# Altium integrated library Infineon_Microcontroller.IntLib: 721 symbols (part 58 of 66)
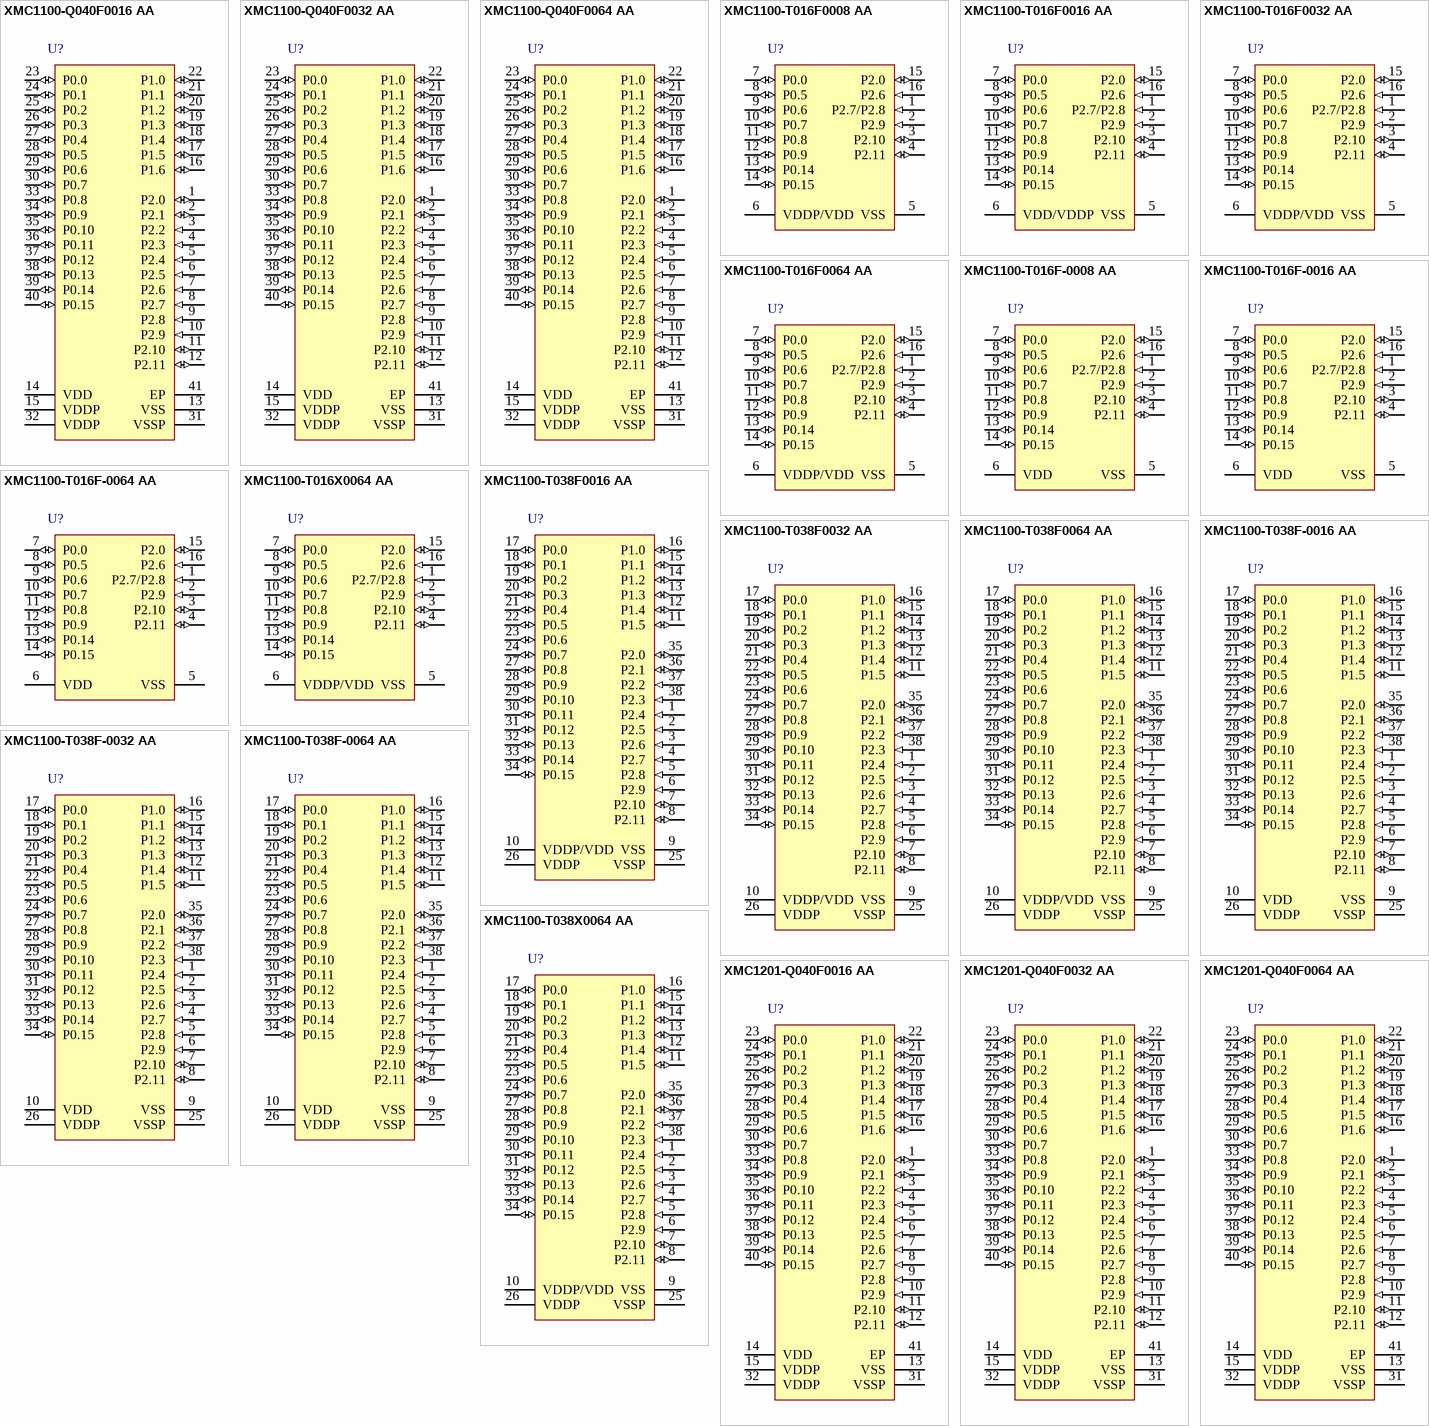
[diagram p175: symbols XMC1100-Q040F0016 AA to XMC1201-Q040F0064 AA]

## XMC1100-Q040F0064 AA
designator U?
32 MHz XMC1100 MCU with 64 KByte Program Memory, 16 KByte SRAM, 3.3 V, 5 V, -40 to 85 degC, PG-VQFN-40, Reel, Green; Manufacturer: Infineon; PartNumber: XMC1100-Q040F0064 AA; A / D input lines (incl. FADC): 12; Digital I/O Lines: 34; E2PROM Emulation (Data-Flash): TRUE; Instruction set architecture: ARM(R) Cortex(TM)-M0 (32-bit); Instruction width [bits]: 32/16; Max Clock Frequency: 32 MHz; Power Modes: clock gating possible; Serial I/O Interfaces: 2; Type of Memory: Flash; Type of Serial I/O Interfaces: UART, SPI, I2C, I2S; DatasheetVersion: Rev. 1.4; PackageVersion: Rev. 01; PackageReference: PG-VQFN-40-13; PackageDescription: 40-Pin Plastic (Green) Very Thin Profile Quad Flat Non Leaded Package, 5 x 5 mm Body, 0.4 mm Pitch; Green: TRUE; Group: XMC1100; Halogen-free: TRUE; I/O Operation Voltages: 3.3 V, 5 V; On-chip clock generation: TRUE; On-chip Voltage Regulator: TRUE; Oscillator Watchdog: TRUE; Packing: Reel; Program Memory: 64 KByte; Real Time Clock (RTC): TRUE; SRAM (incl. Cache): 16 KByte; Watchdog Timer: TRUE; Mounting Technology: Surface Mount; ComponentLink1Description: Manufacturer URL; ComponentLink1URL: http://www.infineon.com/; ComponentLink2Description: Datasheet; ComponentLink2URL: http://www.infineon.com/dgdl/xmc1100_ds_v1.3_2014_02.pdf?folderId=db3a30433580b3710135a47f3eb76c98&fileId=db3a30433d1d0bbe013d256b60160b7f&ack=t; ComponentLink3Description: Package Specification; ComponentLink3URL: http://www.infineon.com/cms/packages/SMD_-_Surface_Mounted_Devices/P-PG-VQFN/P-PG-VQFN-040-13.html?__locale=en
footprint INF-PG-VQFN-40-13_V (QFN, 40-Leads, Body 5x5mm, Pitch 0.4mm, Thermal Pad 3.6x3.6mm)
pins: 1 P2.0 (io), 2 P2.1 (io), 3 P2.2 (in), 4 P2.3 (in), 5 P2.4 (in), 6 P2.5 (in), 7 P2.6 (in), 8 P2.7 (in), 9 P2.8 (in), 10 P2.9 (in), 11 P2.10 (io), 12 P2.11 (io), 13 VSS (power) "Supply GND, ADC reference GND", 14 VDD (power) "Supply VDD, ADC reference voltage/ORC reference voltage. VDD has to be supplied with the same voltage as VDDP", 15 VDDP (power) "I/O port supply", 16 P1.6 (io), 17 P1.5 (io), 18 P1.4 (io), 19 P1.3 (io), 20 P1.2 (io), 21 P1.1 (io), 22 P1.0 (io), 23 P0.0 (io), 24 P0.1 (io), 25 P0.2 (io), 26 P0.3 (io), 27 P0.4 (io), 28 P0.5 (io), 29 P0.6 (io), 30 P0.7 (io), 31 VSSP (power) "I/O port ground", 32 VDDP (power) "I/O port supply", 33 P0.8 (io), 34 P0.9 (io), 35 P0.10 (io), 36 P0.11 (io), 37 P0.12 (io), 38 P0.13 (io), 39 P0.14 (io), 40 P0.15 (io), 41 EP (power) "Exposed Die Pad The exposed die pad is connected internally to VSSP.For proper operation, it is mandatory to connect the exposed pad to the board ground For thermal aspects, please refer to the Package and Reliability chapter."

## XMC1100-T016F0008 AA
designator U?
32 MHz XMC1100 MCU with 8 Kbyte Program Memory, 16 KByte SRAM, 3.3 V, 5 V, -40 to 85 degC, PG-TSSOP-16, Reel, Green; Manufacturer: Infineon; PartNumber: XMC1100-T016F0008 AA; A / D input lines (incl. FADC): 6; Digital I/O Lines: 14; E2PROM Emulation (Data-Flash): TRUE; Instruction set architecture: ARM(R) Cortex(TM)-M0 (32-bit); Instruction width [bits]: 32/16; Max Clock Frequency: 32 MHz; Power Modes: clock gating possible; Program Memory: 8 Kbyte; Serial I/O Interfaces: 2; Type of Memory: Flash; Type of Serial I/O Interfaces: UART, SPI, I2C, I2S; DatasheetVersion: Rev. 1.4; PackageVersion: Rev. 1.4, 05/2014; PackageReference: PG-TSSOP-16-8; PackageDescription: 16-Pin Plastic (Green) Thin Shrink Small Outline Package, 4.4 x 5 mm Body, 0.65 mm Pitch; Green: TRUE; Group: XMC1100; Halogen-free: TRUE; I/O Operation Voltages: 3.3 V, 5 V; On-chip clock generation: TRUE; On-chip Voltage Regulator: TRUE; Oscillator Watchdog: TRUE; Packing: Reel; Real Time Clock (RTC): TRUE; SRAM (incl. Cache): 16 KByte; Watchdog Timer: TRUE; Mounting Technology: Surface Mount; ComponentLink1Description: Manufacturer URL; ComponentLink1URL: http://www.infineon.com/; ComponentLink2Description: Datasheet; ComponentLink2URL: http://www.infineon.com/dgdl/xmc1100_ds_v1.4_2014_05.pdf?folderId=db3a30433580b3710135a47f3eb76c98&fileId=db3a30433d1d0bbe013d256b60160b7f&ack=t; ComponentLink3Description: Package Specification; ComponentLink3URL: http://www.infineon.com/dgdl/xmc1300_ds_v1.4_2014_05.pdf?folderId=db3a30433580b3710135a47f3eb76c98&fileId=db3a30433d1d0bbe013d256ee0aa0ccb&ack=t
footprint INF-PG-TSSOP-16-8_N (SOP, 16-Leads, Body 5x4.4mm, Pitch 0.65mm, IPC Medium Density)
footprint INF-PG-TSSOP-16-8_L (SOP, 16-Leads, Body 5x4.4mm, Pitch 0.65mm, IPC High Density)
footprint INF-PG-TSSOP-16-8_M (SOP, 16-Leads, Body 5x4.4mm, Pitch 0.65mm, IPC Low Density)
pins: 1 P2.7/P2.8 (in), 2 P2.9 (in), 3 P2.10 (io), 4 P2.11 (io), 5 VSS (power) "Supply GND, ADC reference GND", 6 VDDP/VDD (power), 7 P0.0 (io), 8 P0.5 (io), 9 P0.6 (io), 10 P0.7 (io), 11 P0.8 (io), 12 P0.9 (io), 13 P0.14 (io), 14 P0.15 (io), 15 P2.0 (io), 16 P2.6 (in)

## XMC1100-T016F0016 AA
designator U?
32 MHz XMC1100 MCU with 16 KByte Program Memory, 16 KByte SRAM, 3.3 V, 5 V, -40 to 85 degC, PG-TSSOP-16, Reel, Green; Manufacturer: Infineon; PartNumber: XMC1100-T016F0016 AA; A / D input lines (incl. FADC): 6; Digital I/O Lines: 14; E2PROM Emulation (Data-Flash): TRUE; Instruction set architecture: ARM(R) Cortex(TM)-M0 (32-bit); Instruction width [bits]: 32/16; Max Clock Frequency: 32 MHz; Power Modes: clock gating possible; Serial I/O Interfaces: 2; Type of Memory: Flash; Type of Serial I/O Interfaces: UART, SPI, I2C, I2S; DatasheetVersion: Rev. 1.4; PackageVersion: Rev. 1.4, 05/2014; PackageReference: PG-TSSOP-16-8; PackageDescription: 16-Pin Plastic (Green) Thin Shrink Small Outline Package, 4.4 x 5 mm Body, 0.65 mm Pitch; Green: TRUE; Group: XMC1100; Halogen-free: TRUE; I/O Operation Voltages: 3.3 V, 5 V; On-chip clock generation: TRUE; On-chip Voltage Regulator: TRUE; Oscillator Watchdog: TRUE; Packing: Reel; Program Memory: 16 KByte; Real Time Clock (RTC): TRUE; SRAM (incl. Cache): 16 KByte; Watchdog Timer: TRUE; Mounting Technology: Surface Mount; ComponentLink1Description: Manufacturer URL; ComponentLink1URL: http://www.infineon.com/; ComponentLink2Description: Datasheet; ComponentLink2URL: http://www.infineon.com/dgdl/xmc1100_ds_v1.3_2014_02.pdf?folderId=db3a30433580b3710135a47f3eb76c98&fileId=db3a30433d1d0bbe013d256b60160b7f&ack=t; ComponentLink3Description: Package Specification; ComponentLink3URL: http://www.infineon.com/dgdl/xmc1300_ds_v1.4_2014_05.pdf?folderId=db3a30433580b3710135a47f3eb76c98&fileId=db3a30433d1d0bbe013d256ee0aa0ccb&ack=t
footprint INF-PG-TSSOP-16-8_N (SOP, 16-Leads, Body 5x4.4mm, Pitch 0.65mm, IPC Medium Density)
footprint INF-PG-TSSOP-16-8_L (SOP, 16-Leads, Body 5x4.4mm, Pitch 0.65mm, IPC High Density)
footprint INF-PG-TSSOP-16-8_M (SOP, 16-Leads, Body 5x4.4mm, Pitch 0.65mm, IPC Low Density)
pins: 1 P2.7/P2.8 (in), 2 P2.9 (in), 3 P2.10 (io), 4 P2.11 (io), 5 VSS (power) "Supply GND:ADC reference GND", 6 VDD/VDDP (power) "Supply VDD:ADC reference voltage/ORC reference voltage. VDD has to be supplied with the same voltage as VDDP; VDDP:I/O port supply", 7 P0.0 (io), 8 P0.5 (io), 9 P0.6 (io), 10 P0.7 (io), 11 P0.8 (io), 12 P0.9 (io), 13 P0.14 (io), 14 P0.15 (io), 15 P2.0 (io), 16 P2.6 (in)

## XMC1100-T016F0032 AA
designator U?
32 MHz XMC1100 MCU with 32 KByte Program Memory, 16 KByte SRAM, 3.3 V, 5 V, -40 to 85 degC, PG-TSSOP-16, Reel, Green; Manufacturer: Infineon; PartNumber: XMC1100-T016F0032 AA; A / D input lines (incl. FADC): 6; Digital I/O Lines: 14; E2PROM Emulation (Data-Flash): TRUE; Instruction set architecture: ARM(R) Cortex(TM)-M0 (32-bit); Instruction width [bits]: 32/16; Max Clock Frequency: 32 MHz; Power Modes: clock gating possible; Serial I/O Interfaces: 2; Type of Memory: Flash; Type of Serial I/O Interfaces: UART, SPI, I2C, I2S; DatasheetVersion: Rev. 1.4; PackageVersion: Rev. 1.4, 05/2014; PackageReference: PG-TSSOP-16-8; PackageDescription: 16-Pin Plastic (Green) Thin Shrink Small Outline Package, 4.4 x 5 mm Body, 0.65 mm Pitch; Green: TRUE; Group: XMC1100; Halogen-free: TRUE; I/O Operation Voltages: 3.3 V, 5 V; On-chip clock generation: TRUE; On-chip Voltage Regulator: TRUE; Oscillator Watchdog: TRUE; Packing: Reel; Program Memory: 32 KByte; Real Time Clock (RTC): TRUE; SRAM (incl. Cache): 16 KByte; Watchdog Timer: TRUE; Mounting Technology: Surface Mount; ComponentLink1Description: Manufacturer URL; ComponentLink1URL: http://www.infineon.com/; ComponentLink2Description: Datasheet; ComponentLink2URL: http://www.infineon.com/dgdl/xmc1100_ds_v1.3_2014_02.pdf?folderId=db3a30433580b3710135a47f3eb76c98&fileId=db3a30433d1d0bbe013d256b60160b7f&ack=t; ComponentLink3Description: Package Specification; ComponentLink3URL: http://www.infineon.com/dgdl/xmc1300_ds_v1.4_2014_05.pdf?folderId=db3a30433580b3710135a47f3eb76c98&fileId=db3a30433d1d0bbe013d256ee0aa0ccb&ack=t
footprint INF-PG-TSSOP-16-8_N (SOP, 16-Leads, Body 5x4.4mm, Pitch 0.65mm, IPC Medium Density)
footprint INF-PG-TSSOP-16-8_L (SOP, 16-Leads, Body 5x4.4mm, Pitch 0.65mm, IPC High Density)
footprint INF-PG-TSSOP-16-8_M (SOP, 16-Leads, Body 5x4.4mm, Pitch 0.65mm, IPC Low Density)
pins: 1 P2.7/P2.8 (in), 2 P2.9 (in), 3 P2.10 (io), 4 P2.11 (io), 5 VSS (power) "Supply GND, ADC reference GND", 6 VDDP/VDD (power), 7 P0.0 (io), 8 P0.5 (io), 9 P0.6 (io), 10 P0.7 (io), 11 P0.8 (io), 12 P0.9 (io), 13 P0.14 (io), 14 P0.15 (io), 15 P2.0 (io), 16 P2.6 (in)

## XMC1100-T016F0064 AA
designator U?
32 MHz XMC1100 MCU with 64 KByte Program Memory, 16 KByte SRAM, 3.3 V, 5 V, -40 to 85 degC, PG-TSSOP-16, Reel, Green; Manufacturer: Infineon; PartNumber: XMC1100-T016F0064 AA; A / D input lines (incl. FADC): 6; Digital I/O Lines: 14; E2PROM Emulation (Data-Flash): TRUE; Instruction set architecture: ARM(R) Cortex(TM)-M0 (32-bit); Instruction width [bits]: 32/16; Max Clock Frequency: 32 MHz; Power Modes: clock gating possible; Serial I/O Interfaces: 2; Type of Memory: Flash; Type of Serial I/O Interfaces: UART, SPI, I2C, I2S; DatasheetVersion: Rev. 1.4; PackageVersion: Rev. 1.4, 05/2014; PackageReference: PG-TSSOP-16-8; PackageDescription: 16-Pin Plastic (Green) Thin Shrink Small Outline Package, 4.4 x 5 mm Body, 0.65 mm Pitch; Green: TRUE; Group: XMC1100; Halogen-free: TRUE; I/O Operation Voltages: 3.3 V, 5 V; On-chip clock generation: TRUE; On-chip Voltage Regulator: TRUE; Oscillator Watchdog: TRUE; Packing: Reel; Program Memory: 64 KByte; Real Time Clock (RTC): TRUE; SRAM (incl. Cache): 16 KByte; Watchdog Timer: TRUE; Mounting Technology: Surface Mount; ComponentLink1Description: Manufacturer URL; ComponentLink1URL: http://www.infineon.com/; ComponentLink2Description: Datasheet; ComponentLink2URL: http://www.infineon.com/dgdl/xmc1100_ds_v1.3_2014_02.pdf?folderId=db3a30433580b3710135a47f3eb76c98&fileId=db3a30433d1d0bbe013d256b60160b7f&ack=t; ComponentLink3Description: Package Specification; ComponentLink3URL: http://www.infineon.com/dgdl/xmc1300_ds_v1.4_2014_05.pdf?folderId=db3a30433580b3710135a47f3eb76c98&fileId=db3a30433d1d0bbe013d256ee0aa0ccb&ack=t
footprint INF-PG-TSSOP-16-8_N (SOP, 16-Leads, Body 5x4.4mm, Pitch 0.65mm, IPC Medium Density)
footprint INF-PG-TSSOP-16-8_L (SOP, 16-Leads, Body 5x4.4mm, Pitch 0.65mm, IPC High Density)
footprint INF-PG-TSSOP-16-8_M (SOP, 16-Leads, Body 5x4.4mm, Pitch 0.65mm, IPC Low Density)
pins: 1 P2.7/P2.8 (in), 2 P2.9 (in), 3 P2.10 (io), 4 P2.11 (io), 5 VSS (power) "Supply GND, ADC reference GND", 6 VDDP/VDD (power), 7 P0.0 (io), 8 P0.5 (io), 9 P0.6 (io), 10 P0.7 (io), 11 P0.8 (io), 12 P0.9 (io), 13 P0.14 (io), 14 P0.15 (io), 15 P2.0 (io), 16 P2.6 (in)

## XMC1100-T016F-0008 AA
designator U?
32 MHz XMC1000 MCU with 8 KByte Program Memory, 16 KByte SRAM, 1.8 V, 5.0 V, -40 to 85 degC, PG-TSSOP-16, Green; Manufacturer: Infineon; PartNumber: XMC1100-T016F-0008 AA; A / D input lines (incl. FADC): 6; DatasheetVersion: Rev. 0.6; PackageVersion: V0.6, 03/2013; PackageReference: PG-TSSOP-16-8; PackageDescription: 16-Pin Plastic (Green) Thin Shrink Small Outline Package, Body 4.4 x 5 mm, Pitch 0.65 mm; Mounting Technology: Surface Mount; ComponentLink1Description: Manufacturer URL; ComponentLink1URL: http://www.infineon.com/; ComponentLink2Description: Datasheet; ComponentLink2URL: http://www.infineon.com/dgdl/xmc1100_ds_v0+5_2013_03_04.pdf?folderId=db3a30433580b3710135a47f3eb76c98&fileId=db3a30433d1d0bbe013d256b60160b7f; ComponentLink3Description: Package Specification; ComponentLink3URL: http://www.infineon.com/dgdl/xmc1100_ds_v0+5_2013_03_04.pdf?folderId=db3a30433580b3710135a47f3eb76c98&fileId=db3a30433d1d0bbe013d256b60160b7f
footprint INF-PG-TSSOP-16-8_N (SOP, 16-Leads, Body 5x4.4mm, Pitch 0.65mm, IPC Medium Density)
footprint INF-PG-TSSOP-16-8_L (SOP, 16-Leads, Body 5x4.4mm, Pitch 0.65mm, IPC High Density)
footprint INF-PG-TSSOP-16-8_M (SOP, 16-Leads, Body 5x4.4mm, Pitch 0.65mm, IPC Low Density)
pins: 1 P2.7/P2.8 (in), 2 P2.9 (in), 3 P2.10 (io), 4 P2.11 (io), 5 VSS (power) "Supply GND, ADC reference GND", 6 VDD (power) "Supply VDD, ADC reference voltage", 7 P0.0 (io), 8 P0.5 (io), 9 P0.6 (io), 10 P0.7 (io), 11 P0.8 (io), 12 P0.9 (io), 13 P0.14 (io), 14 P0.15 (io), 15 P2.0 (io), 16 P2.6 (in)

## XMC1100-T016F-0016 AA
designator U?
32 MHz XMC1000 MCU with 16 KByte Program Memory, 16 KByte SRAM, 1.8 V, 5.0 V, -40 to 85 degC, PG-TSSOP-16, Green; Manufacturer: Infineon; PartNumber: XMC1100-T016F-0016 AA; A / D input lines (incl. FADC): 6; DatasheetVersion: Rev. 0.6; PackageVersion: V0.6, 03/2013; PackageReference: PG-TSSOP-16-8; PackageDescription: 16-Pin Plastic (Green) Thin Shrink Small Outline Package, Body 4.4 x 5 mm, Pitch 0.65 mm; Mounting Technology: Surface Mount; ComponentLink1Description: Manufacturer URL; ComponentLink1URL: http://www.infineon.com/; ComponentLink2Description: Datasheet; ComponentLink2URL: http://www.infineon.com/dgdl/xmc1100_ds_v0+5_2013_03_04.pdf?folderId=db3a30433580b3710135a47f3eb76c98&fileId=db3a30433d1d0bbe013d256b60160b7f; ComponentLink3Description: Package Specification; ComponentLink3URL: http://www.infineon.com/dgdl/xmc1100_ds_v0+5_2013_03_04.pdf?folderId=db3a30433580b3710135a47f3eb76c98&fileId=db3a30433d1d0bbe013d256b60160b7f
footprint INF-PG-TSSOP-16-8_N (SOP, 16-Leads, Body 5x4.4mm, Pitch 0.65mm, IPC Medium Density)
footprint INF-PG-TSSOP-16-8_L (SOP, 16-Leads, Body 5x4.4mm, Pitch 0.65mm, IPC High Density)
footprint INF-PG-TSSOP-16-8_M (SOP, 16-Leads, Body 5x4.4mm, Pitch 0.65mm, IPC Low Density)
pins: 1 P2.7/P2.8 (in), 2 P2.9 (in), 3 P2.10 (io), 4 P2.11 (io), 5 VSS (power) "Supply GND, ADC reference GND", 6 VDD (power) "Supply VDD, ADC reference voltage", 7 P0.0 (io), 8 P0.5 (io), 9 P0.6 (io), 10 P0.7 (io), 11 P0.8 (io), 12 P0.9 (io), 13 P0.14 (io), 14 P0.15 (io), 15 P2.0 (io), 16 P2.6 (in)

## XMC1100-T016F-0064 AA
designator U?
32 MHz XMC1000 MCU with 64 KByte Program Memory, 16 KByte SRAM, 1.8 V, 5.0 V, -40 to 85 degC, PG-TSSOP-16, Green; Manufacturer: Infineon; PartNumber: XMC1100-T016F-0064 AA; A / D input lines (incl. FADC): 6; DatasheetVersion: Rev. 0.6; PackageVersion: V0.6, 03/2013; PackageReference: PG-TSSOP-16-8; PackageDescription: 16-Pin Plastic (Green) Thin Shrink Small Outline Package, Body 4.4 x 5 mm, Pitch 0.65 mm; Mounting Technology: Surface Mount; ComponentLink1Description: Manufacturer URL; ComponentLink1URL: http://www.infineon.com/; ComponentLink2Description: Datasheet; ComponentLink2URL: http://www.infineon.com/dgdl/xmc1100_ds_v0+5_2013_03_04.pdf?folderId=db3a30433580b3710135a47f3eb76c98&fileId=db3a30433d1d0bbe013d256b60160b7f; ComponentLink3Description: Package Specification; ComponentLink3URL: http://www.infineon.com/dgdl/xmc1100_ds_v0+5_2013_03_04.pdf?folderId=db3a30433580b3710135a47f3eb76c98&fileId=db3a30433d1d0bbe013d256b60160b7f
footprint INF-PG-TSSOP-16-8_N (SOP, 16-Leads, Body 5x4.4mm, Pitch 0.65mm, IPC Medium Density)
footprint INF-PG-TSSOP-16-8_L (SOP, 16-Leads, Body 5x4.4mm, Pitch 0.65mm, IPC High Density)
footprint INF-PG-TSSOP-16-8_M (SOP, 16-Leads, Body 5x4.4mm, Pitch 0.65mm, IPC Low Density)
pins: 1 P2.7/P2.8 (in), 2 P2.9 (in), 3 P2.10 (io), 4 P2.11 (io), 5 VSS (power) "Supply GND, ADC reference GND", 6 VDD (power) "Supply VDD, ADC reference voltage", 7 P0.0 (io), 8 P0.5 (io), 9 P0.6 (io), 10 P0.7 (io), 11 P0.8 (io), 12 P0.9 (io), 13 P0.14 (io), 14 P0.15 (io), 15 P2.0 (io), 16 P2.6 (in)

## XMC1100-T016X0064 AA
designator U?
32 MHz XMC1100 MCU with 64 KByte Program Memory, 16 KByte SRAM, 3.3 V, 5 V, -40 to 105 degC, PG-TSSOP-16, Reel, Green; Manufacturer: Infineon; PartNumber: XMC1100-T016X0064 AA; A / D input lines (incl. FADC): 6; Digital I/O Lines: 14; E2PROM Emulation (Data-Flash): TRUE; Instruction set architecture: ARM(R) Cortex(TM)-M0 (32-bit); Instruction width [bits]: 32/16; Max Clock Frequency: 32 MHz; Power Modes: clock gating possible; Serial I/O Interfaces: 2; Type of Memory: Flash; Type of Serial I/O Interfaces: UART, SPI, I2C, I2S; DatasheetVersion: Rev. 1.4; PackageVersion: Rev. 1.4, 05/2014; PackageReference: PG-TSSOP-16-8; PackageDescription: 16-Pin Plastic (Green) Thin Shrink Small Outline Package, 4.4 x 5 mm Body, 0.65 mm Pitch; Green: TRUE; Group: XMC1100; Halogen-free: TRUE; I/O Operation Voltages: 3.3 V, 5 V; On-chip clock generation: TRUE; On-chip Voltage Regulator: TRUE; Oscillator Watchdog: TRUE; Packing: Reel; Program Memory: 64 KByte; Real Time Clock (RTC): TRUE; SRAM (incl. Cache): 16 KByte; Watchdog Timer: TRUE; Mounting Technology: Surface Mount; ComponentLink1Description: Manufacturer URL; ComponentLink1URL: http://www.infineon.com/; ComponentLink2Description: Datasheet; ComponentLink2URL: http://www.infineon.com/dgdl/xmc1100_ds_v1.3_2014_02.pdf?folderId=db3a30433580b3710135a47f3eb76c98&fileId=db3a30433d1d0bbe013d256b60160b7f&ack=t; ComponentLink3Description: Package Specification; ComponentLink3URL: http://www.infineon.com/dgdl/xmc1300_ds_v1.4_2014_05.pdf?folderId=db3a30433580b3710135a47f3eb76c98&fileId=db3a30433d1d0bbe013d256ee0aa0ccb&ack=t
footprint INF-PG-TSSOP-16-8_N (SOP, 16-Leads, Body 5x4.4mm, Pitch 0.65mm, IPC Medium Density)
footprint INF-PG-TSSOP-16-8_L (SOP, 16-Leads, Body 5x4.4mm, Pitch 0.65mm, IPC High Density)
footprint INF-PG-TSSOP-16-8_M (SOP, 16-Leads, Body 5x4.4mm, Pitch 0.65mm, IPC Low Density)
pins: 1 P2.7/P2.8 (in), 2 P2.9 (in), 3 P2.10 (io), 4 P2.11 (io), 5 VSS (power) "Supply GND, ADC reference GND", 6 VDDP/VDD (power), 7 P0.0 (io), 8 P0.5 (io), 9 P0.6 (io), 10 P0.7 (io), 11 P0.8 (io), 12 P0.9 (io), 13 P0.14 (io), 14 P0.15 (io), 15 P2.0 (io), 16 P2.6 (in)

## XMC1100-T038F0016 AA
designator U?
32 MHz XMC1100 MCU with 16 KByte Program Memory, 16 KByte SRAM, 3.3 V, 5 V, -40 to 85 degC, PG-TSSOP-38, Reel, Green; Manufacturer: Infineon; PartNumber: XMC1100-T038F0016 AA; A / D input lines (incl. FADC): 12; Digital I/O Lines: 34; E2PROM Emulation (Data-Flash): TRUE; Instruction set architecture: ARM(R) Cortex(TM)-M0 (32-bit); Instruction width [bits]: 32/16; Max Clock Frequency: 32 MHz; Power Modes: clock gating possible; Serial I/O Interfaces: 2; Type of Memory: Flash; Type of Serial I/O Interfaces: UART, SPI, I2C, I2S; DatasheetVersion: Rev. 1.4; PackageReference: PG-TSSOP-38-9; PackageDescription: 38-Pin Plastic (Green) Thin Shrink Small Outline Package, 9.7 x 4.4 mm Body, 0.5 mm Pitch; Green: TRUE; Group: XMC1100; Halogen-free: TRUE; I/O Operation Voltages: 3.3 V, 5 V; On-chip clock generation: TRUE; On-chip Voltage Regulator: TRUE; Oscillator Watchdog: TRUE; Packing: Reel; Program Memory: 16 KByte; Real Time Clock (RTC): TRUE; SRAM (incl. Cache): 16 KByte; Watchdog Timer: TRUE; Mounting Technology: Surface Mount; ComponentLink1Description: Manufacturer URL; ComponentLink1URL: http://www.infineon.com/; ComponentLink2Description: Datasheet; ComponentLink2URL: http://www.infineon.com/dgdl/xmc1100_ds_v1.3_2014_02.pdf?folderId=db3a30433580b3710135a47f3eb76c98&fileId=db3a30433d1d0bbe013d256b60160b7f&ack=t; ComponentLink3Description: Package Specification; ComponentLink3URL: http://www.infineon.com/dgdl/xmc1100_ds_v1.3_2014_02.pdf?folderId=db3a30433580b3710135a47f3eb76c98&fileId=db3a30433d1d0bbe013d256b60160b7f&ack=t
footprint INF-PG-TSSOP-38-9_N (SOP, 38-Leads, Body 9.7x4.4mm, Pitch 0.5mm, IPC Medium Density)
footprint INF-PG-TSSOP-38-9_L (SOP, 38-Leads, Body 9.7x4.4mm, Pitch 0.5mm, IPC High Density)
footprint INF-PG-TSSOP-38-9_M (SOP, 38-Leads, Body 9.7x4.4mm, Pitch 0.5mm, IPC Low Density)
pins: 1 P2.4 (in), 2 P2.5 (in), 3 P2.6 (in), 4 P2.7 (in), 5 P2.8 (in), 6 P2.9 (in), 7 P2.10 (io), 8 P2.11 (io), 9 VSS (power) "Supply GND, ADC reference GND", 10 VDDP/VDD (power), 11 P1.5 (io), 12 P1.4 (io), 13 P1.3 (io), 14 P1.2 (io), 15 P1.1 (io), 16 P1.0 (io), 17 P0.0 (io), 18 P0.1 (io), 19 P0.2 (io), 20 P0.3 (io), 21 P0.4 (io), 22 P0.5 (io), 23 P0.6 (io), 24 P0.7 (io), 25 VSSP (power) "I/O port ground", 26 VDDP (power) "I/O port supply", 27 P0.8 (io), 28 P0.9 (io), 29 P0.10 (io), 30 P0.11 (io), 31 P0.12 (io), 32 P0.13 (io), 33 P0.14 (io), 34 P0.15 (io), 35 P2.0 (io), 36 P2.1 (io), 37 P2.2 (in), 38 P2.3 (in)

## XMC1100-T038F0032 AA
designator U?
32 MHz XMC1100 MCU with 32 KByte Program Memory, 16 KByte SRAM, 3.3 V, 5 V, -40 to 85 degC, PG-TSSOP-38, Reel, Green; Manufacturer: Infineon; PartNumber: XMC1100-T038F0032 AA; A / D input lines (incl. FADC): 12; Digital I/O Lines: 34; E2PROM Emulation (Data-Flash): TRUE; Instruction set architecture: ARM(R) Cortex(TM)-M0 (32-bit); Instruction width [bits]: 32/16; Max Clock Frequency: 32 MHz; Power Modes: clock gating possible; Serial I/O Interfaces: 2; Type of Memory: Flash; Type of Serial I/O Interfaces: UART, SPI, I2C, I2S; DatasheetVersion: Rev. 1.4; PackageReference: PG-TSSOP-38-9; PackageDescription: 38-Pin Plastic (Green) Thin Shrink Small Outline Package, 9.7 x 4.4 mm Body, 0.5 mm Pitch; Green: TRUE; Group: XMC1100; Halogen-free: TRUE; I/O Operation Voltages: 3.3 V, 5 V; On-chip clock generation: TRUE; On-chip Voltage Regulator: TRUE; Oscillator Watchdog: TRUE; Packing: Reel; Program Memory: 32 KByte; Real Time Clock (RTC): TRUE; SRAM (incl. Cache): 16 KByte; Watchdog Timer: TRUE; Mounting Technology: Surface Mount; ComponentLink1Description: Manufacturer URL; ComponentLink1URL: http://www.infineon.com/; ComponentLink2Description: Datasheet; ComponentLink2URL: http://www.infineon.com/dgdl/xmc1100_ds_v1.3_2014_02.pdf?folderId=db3a30433580b3710135a47f3eb76c98&fileId=db3a30433d1d0bbe013d256b60160b7f&ack=t; ComponentLink3Description: Package Specification; ComponentLink3URL: http://www.infineon.com/dgdl/xmc1100_ds_v1.3_2014_02.pdf?folderId=db3a30433580b3710135a47f3eb76c98&fileId=db3a30433d1d0bbe013d256b60160b7f&ack=t
footprint INF-PG-TSSOP-38-9_N (SOP, 38-Leads, Body 9.7x4.4mm, Pitch 0.5mm, IPC Medium Density)
footprint INF-PG-TSSOP-38-9_L (SOP, 38-Leads, Body 9.7x4.4mm, Pitch 0.5mm, IPC High Density)
footprint INF-PG-TSSOP-38-9_M (SOP, 38-Leads, Body 9.7x4.4mm, Pitch 0.5mm, IPC Low Density)
pins: 1 P2.4 (in), 2 P2.5 (in), 3 P2.6 (in), 4 P2.7 (in), 5 P2.8 (in), 6 P2.9 (in), 7 P2.10 (io), 8 P2.11 (io), 9 VSS (power) "Supply GND, ADC reference GND", 10 VDDP/VDD (power), 11 P1.5 (io), 12 P1.4 (io), 13 P1.3 (io), 14 P1.2 (io), 15 P1.1 (io), 16 P1.0 (io), 17 P0.0 (io), 18 P0.1 (io), 19 P0.2 (io), 20 P0.3 (io), 21 P0.4 (io), 22 P0.5 (io), 23 P0.6 (io), 24 P0.7 (io), 25 VSSP (power) "I/O port ground", 26 VDDP (power) "I/O port supply", 27 P0.8 (io), 28 P0.9 (io), 29 P0.10 (io), 30 P0.11 (io), 31 P0.12 (io), 32 P0.13 (io), 33 P0.14 (io), 34 P0.15 (io), 35 P2.0 (io), 36 P2.1 (io), 37 P2.2 (in), 38 P2.3 (in)

## XMC1100-T038F0064 AA
designator U?
32 MHz XMC1100 MCU with 64 KByte Program Memory, 16 KByte SRAM, 3.3 V, 5 V, -40 to 85 degC, PG-TSSOP-38, Reel, Green; Manufacturer: Infineon; PartNumber: XMC1100-T038F0064 AA; A / D input lines (incl. FADC): 12; Digital I/O Lines: 34; E2PROM Emulation (Data-Flash): TRUE; Instruction set architecture: ARM(R) Cortex(TM)-M0 (32-bit); Instruction width [bits]: 32/16; Max Clock Frequency: 32 MHz; Power Modes: clock gating possible; Serial I/O Interfaces: 2; Type of Memory: Flash; Type of Serial I/O Interfaces: UART, SPI, I2C, I2S; DatasheetVersion: Rev. 1.4; PackageReference: PG-TSSOP-38-9; PackageDescription: 38-Pin Plastic (Green) Thin Shrink Small Outline Package, 9.7 x 4.4 mm Body, 0.5 mm Pitch; Green: TRUE; Group: XMC1100; Halogen-free: TRUE; I/O Operation Voltages: 3.3 V, 5 V; On-chip clock generation: TRUE; On-chip Voltage Regulator: TRUE; Oscillator Watchdog: TRUE; Packing: Reel; Program Memory: 64 KByte; Real Time Clock (RTC): TRUE; SRAM (incl. Cache): 16 KByte; Watchdog Timer: TRUE; Mounting Technology: Surface Mount; ComponentLink1Description: Manufacturer URL; ComponentLink1URL: http://www.infineon.com/; ComponentLink2Description: Datasheet; ComponentLink2URL: http://www.infineon.com/dgdl/xmc1100_ds_v1.3_2014_02.pdf?folderId=db3a30433580b3710135a47f3eb76c98&fileId=db3a30433d1d0bbe013d256b60160b7f&ack=t; ComponentLink3Description: Package Specification; ComponentLink3URL: http://www.infineon.com/dgdl/xmc1100_ds_v1.3_2014_02.pdf?folderId=db3a30433580b3710135a47f3eb76c98&fileId=db3a30433d1d0bbe013d256b60160b7f&ack=t
footprint INF-PG-TSSOP-38-9_N (SOP, 38-Leads, Body 9.7x4.4mm, Pitch 0.5mm, IPC Medium Density)
footprint INF-PG-TSSOP-38-9_L (SOP, 38-Leads, Body 9.7x4.4mm, Pitch 0.5mm, IPC High Density)
footprint INF-PG-TSSOP-38-9_M (SOP, 38-Leads, Body 9.7x4.4mm, Pitch 0.5mm, IPC Low Density)
pins: 1 P2.4 (in), 2 P2.5 (in), 3 P2.6 (in), 4 P2.7 (in), 5 P2.8 (in), 6 P2.9 (in), 7 P2.10 (io), 8 P2.11 (io), 9 VSS (power) "Supply GND, ADC reference GND", 10 VDDP/VDD (power), 11 P1.5 (io), 12 P1.4 (io), 13 P1.3 (io), 14 P1.2 (io), 15 P1.1 (io), 16 P1.0 (io), 17 P0.0 (io), 18 P0.1 (io), 19 P0.2 (io), 20 P0.3 (io), 21 P0.4 (io), 22 P0.5 (io), 23 P0.6 (io), 24 P0.7 (io), 25 VSSP (power) "I/O port ground", 26 VDDP (power) "I/O port supply", 27 P0.8 (io), 28 P0.9 (io), 29 P0.10 (io), 30 P0.11 (io), 31 P0.12 (io), 32 P0.13 (io), 33 P0.14 (io), 34 P0.15 (io), 35 P2.0 (io), 36 P2.1 (io), 37 P2.2 (in), 38 P2.3 (in)

## XMC1100-T038F-0016 AA
designator U?
32 MHz XMC1000 MCU with 16 KByte Program Memory, 16 KByte SRAM, 1.8 V, 5.0 V, -40 to 85 degC, PG-TSSOP-38, Green; Manufacturer: Infineon; PartNumber: XMC1100-T038F-0016 AA; A / D input lines (incl. FADC): 12; DatasheetVersion: Rev. 0.6; PackageVersion: V0.6, 03/2013; PackageReference: PG-TSSOP-38-9; PackageDescription: 38-Pin Plastic (Green) Thin Shrink Small Outline Package, Body 9.7 x 4.4 mm, Pitch 0.5 mm; Mounting Technology: Surface Mount; ComponentLink1Description: Manufacturer URL; ComponentLink1URL: http://www.infineon.com/; ComponentLink2Description: Datasheet; ComponentLink2URL: http://www.infineon.com/dgdl/xmc1100_ds_v0+5_2013_03_04.pdf?folderId=db3a30433580b3710135a47f3eb76c98&fileId=db3a30433d1d0bbe013d256b60160b7f; ComponentLink3Description: Package Specification; ComponentLink3URL: http://www.infineon.com/dgdl/xmc1100_ds_v0+5_2013_03_04.pdf?folderId=db3a30433580b3710135a47f3eb76c98&fileId=db3a30433d1d0bbe013d256b60160b7f
footprint INF-PG-TSSOP-38-9_N (SOP, 38-Leads, Body 9.7x4.4mm, Pitch 0.5mm, IPC Medium Density)
footprint INF-PG-TSSOP-38-9_L (SOP, 38-Leads, Body 9.7x4.4mm, Pitch 0.5mm, IPC High Density)
footprint INF-PG-TSSOP-38-9_M (SOP, 38-Leads, Body 9.7x4.4mm, Pitch 0.5mm, IPC Low Density)
pins: 1 P2.4 (in), 2 P2.5 (in), 3 P2.6 (in), 4 P2.7 (in), 5 P2.8 (in), 6 P2.9 (in), 7 P2.10 (io), 8 P2.11 (io), 9 VSS (power) "Supply GND, ADC reference GND", 10 VDD (power) "Supply VDD, ADC reference voltage", 11 P1.5 (io), 12 P1.4 (io), 13 P1.3 (io), 14 P1.2 (io), 15 P1.1 (io), 16 P1.0 (io), 17 P0.0 (io), 18 P0.1 (io), 19 P0.2 (io), 20 P0.3 (io), 21 P0.4 (io), 22 P0.5 (io), 23 P0.6 (io), 24 P0.7 (io), 25 VSSP (power) "I/O port ground", 26 VDDP (power) "I/O port supply", 27 P0.8 (io), 28 P0.9 (io), 29 P0.10 (io), 30 P0.11 (io), 31 P0.12 (io), 32 P0.13 (io), 33 P0.14 (io), 34 P0.15 (io), 35 P2.0 (io), 36 P2.1 (io), 37 P2.2 (in), 38 P2.3 (in)

## XMC1100-T038F-0032 AA
designator U?
32 MHz XMC1000 MCU with 32 KByte Program Memory, 16 KByte SRAM, 1.8 V, 5.0 V, -40 to 85 degC, PG-TSSOP-38, Green; Manufacturer: Infineon; PartNumber: XMC1100-T038F-0032 AA; A / D input lines (incl. FADC): 12; DatasheetVersion: Rev. 0.6; PackageVersion: V0.6, 03/2013; PackageReference: PG-TSSOP-38-9; PackageDescription: 38-Pin Plastic (Green) Thin Shrink Small Outline Package, Body 9.7 x 4.4 mm, Pitch 0.5 mm; Mounting Technology: Surface Mount; ComponentLink1Description: Manufacturer URL; ComponentLink1URL: http://www.infineon.com/; ComponentLink2Description: Datasheet; ComponentLink2URL: http://www.infineon.com/dgdl/xmc1100_ds_v0+5_2013_03_04.pdf?folderId=db3a30433580b3710135a47f3eb76c98&fileId=db3a30433d1d0bbe013d256b60160b7f; ComponentLink3Description: Package Specification; ComponentLink3URL: http://www.infineon.com/dgdl/xmc1100_ds_v0+5_2013_03_04.pdf?folderId=db3a30433580b3710135a47f3eb76c98&fileId=db3a30433d1d0bbe013d256b60160b7f
footprint INF-PG-TSSOP-38-9_N (SOP, 38-Leads, Body 9.7x4.4mm, Pitch 0.5mm, IPC Medium Density)
footprint INF-PG-TSSOP-38-9_L (SOP, 38-Leads, Body 9.7x4.4mm, Pitch 0.5mm, IPC High Density)
footprint INF-PG-TSSOP-38-9_M (SOP, 38-Leads, Body 9.7x4.4mm, Pitch 0.5mm, IPC Low Density)
pins: 1 P2.4 (in), 2 P2.5 (in), 3 P2.6 (in), 4 P2.7 (in), 5 P2.8 (in), 6 P2.9 (in), 7 P2.10 (io), 8 P2.11 (io), 9 VSS (power) "Supply GND, ADC reference GND", 10 VDD (power) "Supply VDD, ADC reference voltage", 11 P1.5 (io), 12 P1.4 (io), 13 P1.3 (io), 14 P1.2 (io), 15 P1.1 (io), 16 P1.0 (io), 17 P0.0 (io), 18 P0.1 (io), 19 P0.2 (io), 20 P0.3 (io), 21 P0.4 (io), 22 P0.5 (io), 23 P0.6 (io), 24 P0.7 (io), 25 VSSP (power) "I/O port ground", 26 VDDP (power) "I/O port supply", 27 P0.8 (io), 28 P0.9 (io), 29 P0.10 (io), 30 P0.11 (io), 31 P0.12 (io), 32 P0.13 (io), 33 P0.14 (io), 34 P0.15 (io), 35 P2.0 (io), 36 P2.1 (io), 37 P2.2 (in), 38 P2.3 (in)

## XMC1100-T038F-0064 AA
designator U?
32 MHz XMC1000 MCU with 64 KByte Program Memory, 16 KByte SRAM, 1.8 V, 5.0 V, -40 to 85 degC, PG-TSSOP-38, Green; Manufacturer: Infineon; PartNumber: XMC1100-T038F-0064 AA; A / D input lines (incl. FADC): 12; DatasheetVersion: Rev. 0.6; PackageVersion: V0.6, 03/2013; PackageReference: PG-TSSOP-38-9; PackageDescription: 38-Pin Plastic (Green) Thin Shrink Small Outline Package, Body 9.7 x 4.4 mm, Pitch 0.5 mm; Mounting Technology: Surface Mount; ComponentLink1Description: Manufacturer URL; ComponentLink1URL: http://www.infineon.com/; ComponentLink2Description: Datasheet; ComponentLink2URL: http://www.infineon.com/dgdl/xmc1100_ds_v0+5_2013_03_04.pdf?folderId=db3a30433580b3710135a47f3eb76c98&fileId=db3a30433d1d0bbe013d256b60160b7f; ComponentLink3Description: Package Specification; ComponentLink3URL: http://www.infineon.com/dgdl/xmc1100_ds_v0+5_2013_03_04.pdf?folderId=db3a30433580b3710135a47f3eb76c98&fileId=db3a30433d1d0bbe013d256b60160b7f
footprint INF-PG-TSSOP-38-9_N (SOP, 38-Leads, Body 9.7x4.4mm, Pitch 0.5mm, IPC Medium Density)
footprint INF-PG-TSSOP-38-9_L (SOP, 38-Leads, Body 9.7x4.4mm, Pitch 0.5mm, IPC High Density)
footprint INF-PG-TSSOP-38-9_M (SOP, 38-Leads, Body 9.7x4.4mm, Pitch 0.5mm, IPC Low Density)
pins: 1 P2.4 (in), 2 P2.5 (in), 3 P2.6 (in), 4 P2.7 (in), 5 P2.8 (in), 6 P2.9 (in), 7 P2.10 (io), 8 P2.11 (io), 9 VSS (power) "Supply GND, ADC reference GND", 10 VDD (power) "Supply VDD, ADC reference voltage", 11 P1.5 (io), 12 P1.4 (io), 13 P1.3 (io), 14 P1.2 (io), 15 P1.1 (io), 16 P1.0 (io), 17 P0.0 (io), 18 P0.1 (io), 19 P0.2 (io), 20 P0.3 (io), 21 P0.4 (io), 22 P0.5 (io), 23 P0.6 (io), 24 P0.7 (io), 25 VSSP (power) "I/O port ground", 26 VDDP (power) "I/O port supply", 27 P0.8 (io), 28 P0.9 (io), 29 P0.10 (io), 30 P0.11 (io), 31 P0.12 (io), 32 P0.13 (io), 33 P0.14 (io), 34 P0.15 (io), 35 P2.0 (io), 36 P2.1 (io), 37 P2.2 (in), 38 P2.3 (in)

## XMC1100-T038X0064 AA
designator U?
32 MHz XMC1100 MCU with 64 KByte Program Memory, 16 KByte SRAM, 3.3 V, 5 V, -40 to 105 degC, PG-TSSOP-38, Reel, Green; Manufacturer: Infineon; PartNumber: XMC1100-T038X0064 AA; A / D input lines (incl. FADC): 12; Digital I/O Lines: 34; E2PROM Emulation (Data-Flash): TRUE; Instruction set architecture: ARM(R) Cortex(TM)-M0 (32-bit); Instruction width [bits]: 32/16; Max Clock Frequency: 32 MHz; Power Modes: clock gating possible; Serial I/O Interfaces: 2; Type of Memory: Flash; Type of Serial I/O Interfaces: UART, SPI, I2C, I2S; DatasheetVersion: Rev. 1.4; PackageReference: PG-TSSOP-38-9; PackageDescription: 38-Pin Plastic (Green) Thin Shrink Small Outline Package, 9.7 x 4.4 mm Body, 0.5 mm Pitch; Green: TRUE; Group: XMC1100; Halogen-free: TRUE; I/O Operation Voltages: 3.3 V, 5 V; On-chip clock generation: TRUE; On-chip Voltage Regulator: TRUE; Oscillator Watchdog: TRUE; Packing: Reel; Program Memory: 64 KByte; Real Time Clock (RTC): TRUE; SRAM (incl. Cache): 16 KByte; Watchdog Timer: TRUE; Mounting Technology: Surface Mount; ComponentLink1Description: Manufacturer URL; ComponentLink1URL: http://www.infineon.com/; ComponentLink2Description: Datasheet; ComponentLink2URL: http://www.infineon.com/dgdl/xmc1100_ds_v1.3_2014_02.pdf?folderId=db3a30433580b3710135a47f3eb76c98&fileId=db3a30433d1d0bbe013d256b60160b7f&ack=t; ComponentLink3Description: Package Specification; ComponentLink3URL: http://www.infineon.com/dgdl/xmc1100_ds_v1.3_2014_02.pdf?folderId=db3a30433580b3710135a47f3eb76c98&fileId=db3a30433d1d0bbe013d256b60160b7f&ack=t
footprint INF-PG-TSSOP-38-9_N (SOP, 38-Leads, Body 9.7x4.4mm, Pitch 0.5mm, IPC Medium Density)
footprint INF-PG-TSSOP-38-9_L (SOP, 38-Leads, Body 9.7x4.4mm, Pitch 0.5mm, IPC High Density)
footprint INF-PG-TSSOP-38-9_M (SOP, 38-Leads, Body 9.7x4.4mm, Pitch 0.5mm, IPC Low Density)
pins: 1 P2.4 (in), 2 P2.5 (in), 3 P2.6 (in), 4 P2.7 (in), 5 P2.8 (in), 6 P2.9 (in), 7 P2.10 (io), 8 P2.11 (io), 9 VSS (power) "Supply GND, ADC reference GND", 10 VDDP/VDD (power), 11 P1.5 (io), 12 P1.4 (io), 13 P1.3 (io), 14 P1.2 (io), 15 P1.1 (io), 16 P1.0 (io), 17 P0.0 (io), 18 P0.1 (io), 19 P0.2 (io), 20 P0.3 (io), 21 P0.4 (io), 22 P0.5 (io), 23 P0.6 (io), 24 P0.7 (io), 25 VSSP (power) "I/O port ground", 26 VDDP (power) "I/O port supply", 27 P0.8 (io), 28 P0.9 (io), 29 P0.10 (io), 30 P0.11 (io), 31 P0.12 (io), 32 P0.13 (io), 33 P0.14 (io), 34 P0.15 (io), 35 P2.0 (io), 36 P2.1 (io), 37 P2.2 (in), 38 P2.3 (in)

## XMC1201-Q040F0016 AA
designator U?
32 MHz XMC1200 MCU with 16 KByte Program Memory, 16 KByte SRAM, 3.3 V, 5 V, -40 to 85 degC, PG-VQFN-40, Reel, Green; Manufacturer: Infineon; PartNumber: XMC1201-Q040F0016 AA; A / D input lines (incl. FADC): 12; Digital I/O Lines: 34; E2PROM Emulation (Data-Flash): TRUE; Instruction set architecture: ARM(R) Cortex(TM)-M0 (32-bit); Instruction width [bits]: 32/16; Max Clock Frequency: 32 MHz; Power Modes: clock gating possible; Serial I/O Interfaces: 2; Type of Memory: Flash; Type of Serial I/O Interfaces: UART, SPI, I2C, I2S; DatasheetVersion: Rev. 1.4; PackageVersion: Rev. 01; PackageReference: PG-VQFN-40-13; PackageDescription: 40-Pin Plastic (Green) Very Thin Profile Quad Flat Non Leaded Package, 5 x 5 mm Body, 0.4 mm Pitch; Green: TRUE; Group: XMC1200; Halogen-free: TRUE; I/O Operation Voltages: 3.3 V, 5 V; On-chip clock generation: TRUE; On-chip Voltage Regulator: TRUE; Oscillator Watchdog: TRUE; Packing: Reel; Program Memory: 16 KByte; Real Time Clock (RTC): TRUE; SRAM (incl. Cache): 16 KByte; Watchdog Timer: TRUE; Mounting Technology: Surface Mount; ComponentLink1Description: Manufacturer URL; ComponentLink1URL: http://www.infineon.com/; ComponentLink2Description: Datasheet; ComponentLink2URL: http://www.infineon.com/dgdl/xmc1200_ds_v1.4_2014_05.pdf?folderId=db3a30433580b3710135a47f3eb76c98&fileId=db3a30433d1d0bbe013d256d7e460cbf&ack=t; ComponentLink3Description: Package Specification; ComponentLink3URL: http://www.infineon.com/cms/packages/SMD_-_Surface_Mounted_Devices/P-PG-VQFN/P-PG-VQFN-040-13.html?__locale=en
footprint INF-PG-VQFN-40-13_V (QFN, 40-Leads, Body 5x5mm, Pitch 0.4mm, Thermal Pad 3.6x3.6mm)
pins: 1 P2.0 (io), 2 P2.1 (io), 3 P2.2 (in), 4 P2.3 (in), 5 P2.4 (in), 6 P2.5 (in), 7 P2.6 (in), 8 P2.7 (in), 9 P2.8 (in), 10 P2.9 (in), 11 P2.10 (io), 12 P2.11 (io), 13 VSS (power) "Supply GND, ADC reference GND", 14 VDD (power) "Supply VDD, ADC reference voltage/ORC reference voltage. VDD has to be supplied with the same voltage as VDDP", 15 VDDP (power) "I/O port supply", 16 P1.6 (io), 17 P1.5 (io), 18 P1.4 (io), 19 P1.3 (io), 20 P1.2 (io), 21 P1.1 (io), 22 P1.0 (io), 23 P0.0 (io), 24 P0.1 (io), 25 P0.2 (io), 26 P0.3 (io), 27 P0.4 (io), 28 P0.5 (io), 29 P0.6 (io), 30 P0.7 (io), 31 VSSP (power) "I/O port ground", 32 VDDP (power) "I/O port supply", 33 P0.8 (io), 34 P0.9 (io), 35 P0.10 (io), 36 P0.11 (io), 37 P0.12 (io), 38 P0.13 (io), 39 P0.14 (io), 40 P0.15 (io), 41 EP (power) "Exposed Die Pad The exposed die pad is connected internally to VSSP.For proper operation, it is mandatory to connect the exposed pad to the board ground For thermal aspects, please refer to the Package and Reliability chapter."

## XMC1201-Q040F0032 AA
designator U?
32 MHz XMC1200 MCU with 32 KByte Program Memory, 16 KByte SRAM, 3.3 V, 5 V, -40 to 85 degC, PG-VQFN-40, Reel, Green; Manufacturer: Infineon; PartNumber: XMC1201-Q040F0032 AA; A / D input lines (incl. FADC): 12; Digital I/O Lines: 34; E2PROM Emulation (Data-Flash): TRUE; Instruction set architecture: ARM(R) Cortex(TM)-M0 (32-bit); Instruction width [bits]: 32/16; Max Clock Frequency: 32 MHz; Power Modes: clock gating possible; Serial I/O Interfaces: 2; Type of Memory: Flash; Type of Serial I/O Interfaces: UART, SPI, I2C, I2S; DatasheetVersion: Rev. 1.4; PackageVersion: Rev. 01; PackageReference: PG-VQFN-40-13; PackageDescription: 40-Pin Plastic (Green) Very Thin Profile Quad Flat Non Leaded Package, 5 x 5 mm Body, 0.4 mm Pitch; Green: TRUE; Group: XMC1200; Halogen-free: TRUE; I/O Operation Voltages: 3.3 V, 5 V; On-chip clock generation: TRUE; On-chip Voltage Regulator: TRUE; Oscillator Watchdog: TRUE; Packing: Reel; Program Memory: 32 KByte; Real Time Clock (RTC): TRUE; SRAM (incl. Cache): 16 KByte; Watchdog Timer: TRUE; Mounting Technology: Surface Mount; ComponentLink1Description: Manufacturer URL; ComponentLink1URL: http://www.infineon.com/; ComponentLink2Description: Datasheet; ComponentLink2URL: http://www.infineon.com/dgdl/xmc1200_ds_v1.4_2014_05.pdf?folderId=db3a30433580b3710135a47f3eb76c98&fileId=db3a30433d1d0bbe013d256d7e460cbf&ack=t; ComponentLink3Description: Package Specification; ComponentLink3URL: http://www.infineon.com/cms/packages/SMD_-_Surface_Mounted_Devices/P-PG-VQFN/P-PG-VQFN-040-13.html?__locale=en
footprint INF-PG-VQFN-40-13_V (QFN, 40-Leads, Body 5x5mm, Pitch 0.4mm, Thermal Pad 3.6x3.6mm)
pins: 1 P2.0 (io), 2 P2.1 (io), 3 P2.2 (in), 4 P2.3 (in), 5 P2.4 (in), 6 P2.5 (in), 7 P2.6 (in), 8 P2.7 (in), 9 P2.8 (in), 10 P2.9 (in), 11 P2.10 (io), 12 P2.11 (io), 13 VSS (power) "Supply GND, ADC reference GND", 14 VDD (power) "Supply VDD, ADC reference voltage/ORC reference voltage. VDD has to be supplied with the same voltage as VDDP", 15 VDDP (power) "I/O port supply", 16 P1.6 (io), 17 P1.5 (io), 18 P1.4 (io), 19 P1.3 (io), 20 P1.2 (io), 21 P1.1 (io), 22 P1.0 (io), 23 P0.0 (io), 24 P0.1 (io), 25 P0.2 (io), 26 P0.3 (io), 27 P0.4 (io), 28 P0.5 (io), 29 P0.6 (io), 30 P0.7 (io), 31 VSSP (power) "I/O port ground", 32 VDDP (power) "I/O port supply", 33 P0.8 (io), 34 P0.9 (io), 35 P0.10 (io), 36 P0.11 (io), 37 P0.12 (io), 38 P0.13 (io), 39 P0.14 (io), 40 P0.15 (io), 41 EP (power) "Exposed Die Pad The exposed die pad is connected internally to VSSP.For proper operation, it is mandatory to connect the exposed pad to the board ground For thermal aspects, please refer to the Package and Reliability chapter."

## XMC1201-Q040F0064 AA
designator U?
32 MHz XMC1200 MCU with 64 KByte Program Memory, 16 KByte SRAM, 3.3 V, 5 V, -40 to 85 degC, PG-VQFN-40, Reel, Green; Manufacturer: Infineon; PartNumber: XMC1201-Q040F0064 AA; A / D input lines (incl. FADC): 12; Digital I/O Lines: 34; E2PROM Emulation (Data-Flash): TRUE; Instruction set architecture: ARM(R) Cortex(TM)-M0 (32-bit); Instruction width [bits]: 32/16; Max Clock Frequency: 32 MHz; Power Modes: clock gating possible; Serial I/O Interfaces: 2; Type of Memory: Flash; Type of Serial I/O Interfaces: UART, SPI, I2C, I2S; DatasheetVersion: Rev. 1.4; PackageVersion: Rev. 01; PackageReference: PG-VQFN-40-13; PackageDescription: 40-Pin Plastic (Green) Very Thin Profile Quad Flat Non Leaded Package, 5 x 5 mm Body, 0.4 mm Pitch; Green: TRUE; Group: XMC1200; Halogen-free: TRUE; I/O Operation Voltages: 3.3 V, 5 V; On-chip clock generation: TRUE; On-chip Voltage Regulator: TRUE; Oscillator Watchdog: TRUE; Packing: Reel; Program Memory: 64 KByte; Real Time Clock (RTC): TRUE; SRAM (incl. Cache): 16 KByte; Watchdog Timer: TRUE; Mounting Technology: Surface Mount; ComponentLink1Description: Manufacturer URL; ComponentLink1URL: http://www.infineon.com/; ComponentLink2Description: Datasheet; ComponentLink2URL: http://www.infineon.com/dgdl/xmc1200_ds_v1.4_2014_05.pdf?folderId=db3a30433580b3710135a47f3eb76c98&fileId=db3a30433d1d0bbe013d256d7e460cbf&ack=t; ComponentLink3Description: Package Specification; ComponentLink3URL: http://www.infineon.com/cms/packages/SMD_-_Surface_Mounted_Devices/P-PG-VQFN/P-PG-VQFN-040-13.html?__locale=en
footprint INF-PG-VQFN-40-13_V (QFN, 40-Leads, Body 5x5mm, Pitch 0.4mm, Thermal Pad 3.6x3.6mm)
pins: 1 P2.0 (io), 2 P2.1 (io), 3 P2.2 (in), 4 P2.3 (in), 5 P2.4 (in), 6 P2.5 (in), 7 P2.6 (in), 8 P2.7 (in), 9 P2.8 (in), 10 P2.9 (in), 11 P2.10 (io), 12 P2.11 (io), 13 VSS (power) "Supply GND, ADC reference GND", 14 VDD (power) "Supply VDD, ADC reference voltage/ORC reference voltage. VDD has to be supplied with the same voltage as VDDP", 15 VDDP (power) "I/O port supply", 16 P1.6 (io), 17 P1.5 (io), 18 P1.4 (io), 19 P1.3 (io), 20 P1.2 (io), 21 P1.1 (io), 22 P1.0 (io), 23 P0.0 (io), 24 P0.1 (io), 25 P0.2 (io), 26 P0.3 (io), 27 P0.4 (io), 28 P0.5 (io), 29 P0.6 (io), 30 P0.7 (io), 31 VSSP (power) "I/O port ground", 32 VDDP (power) "I/O port supply", 33 P0.8 (io), 34 P0.9 (io), 35 P0.10 (io), 36 P0.11 (io), 37 P0.12 (io), 38 P0.13 (io), 39 P0.14 (io), 40 P0.15 (io), 41 EP (power) "Exposed Die Pad The exposed die pad is connected internally to VSSP.For proper operation, it is mandatory to connect the exposed pad to the board ground For thermal aspects, please refer to the Package and Reliability chapter."

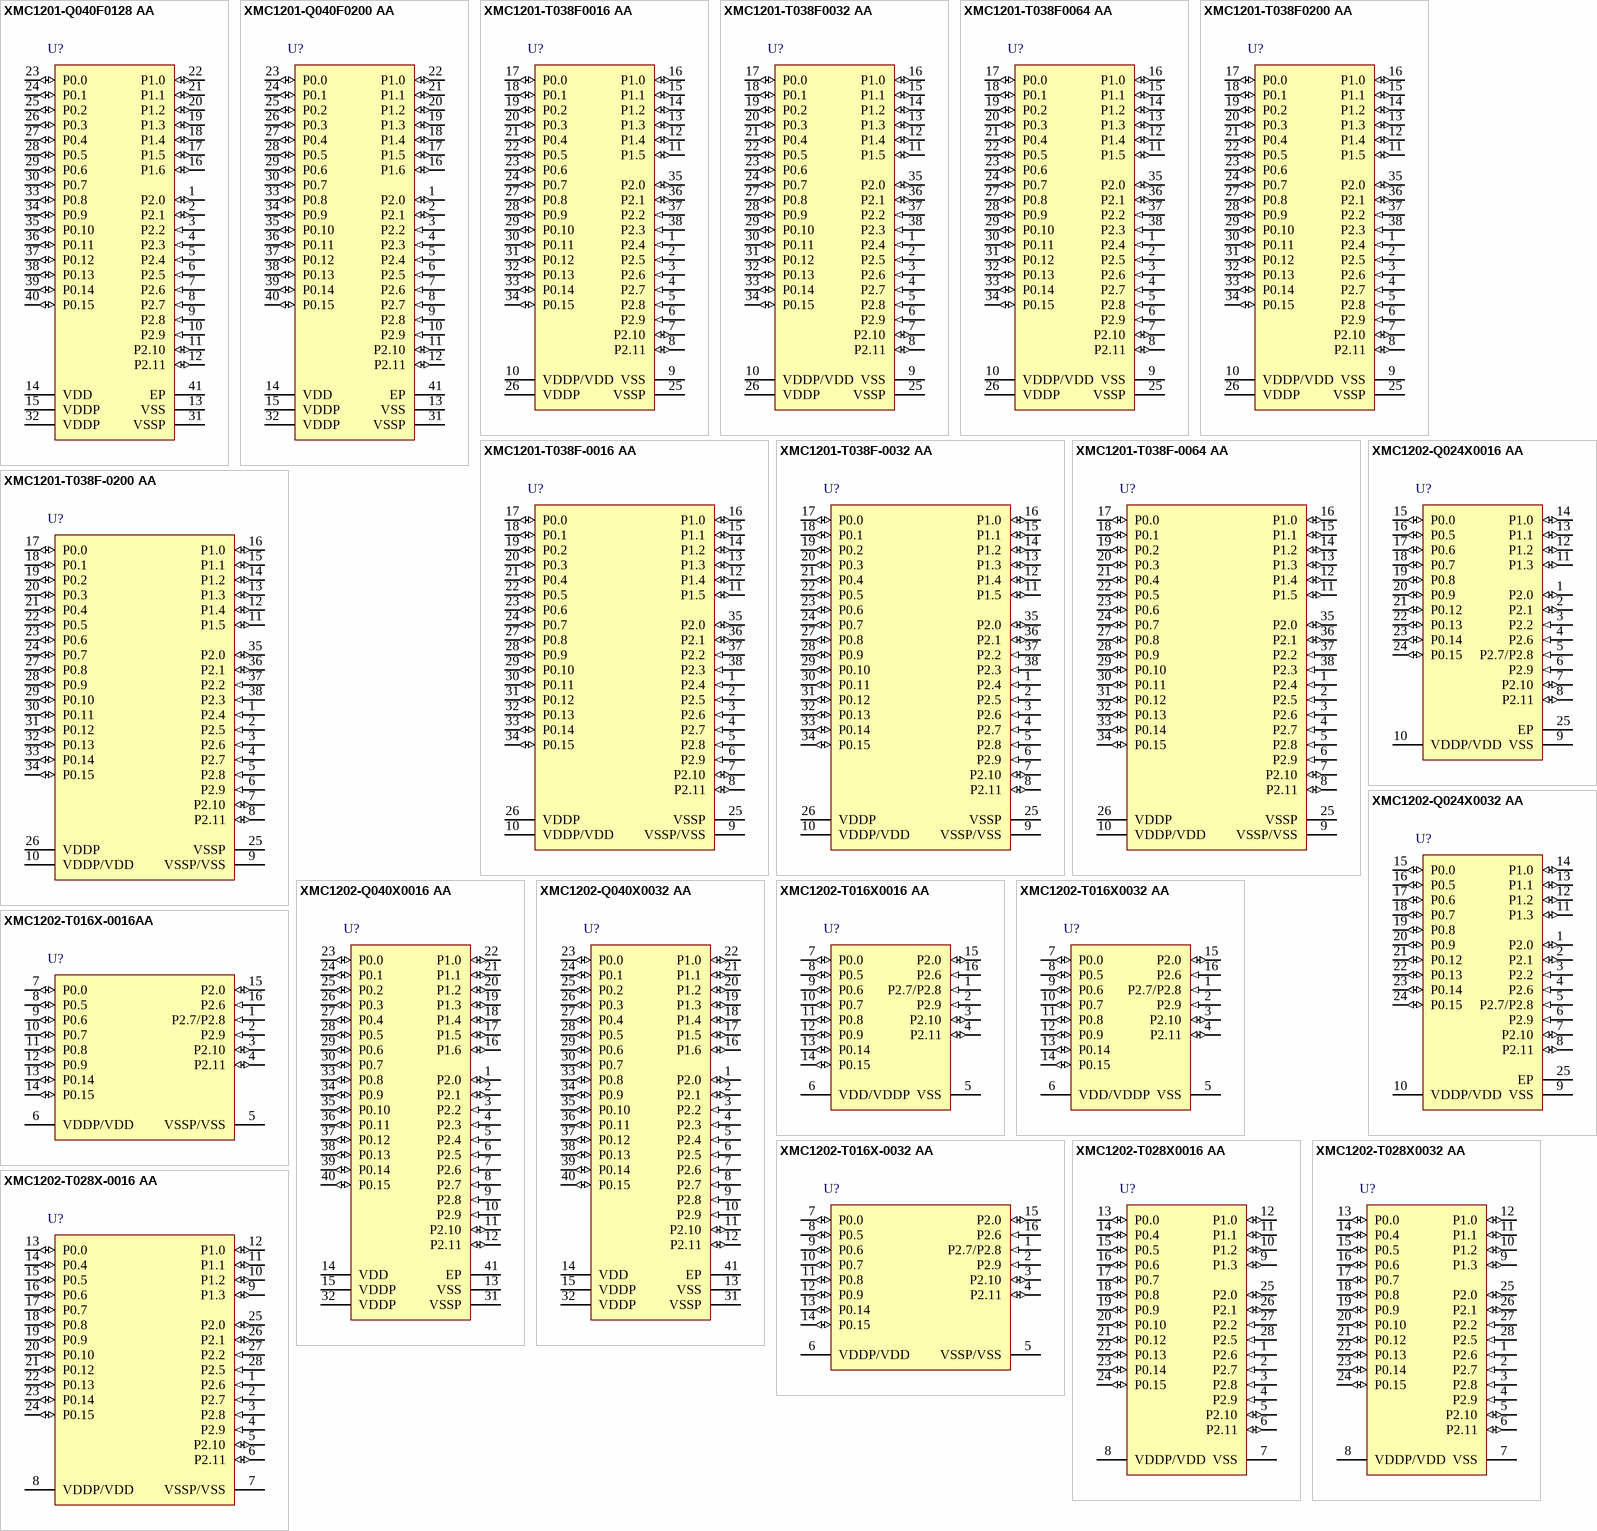
[diagram p106: symbols XMC1201-Q040F0128 AA to XMC1202-T028X-0016 AA]

## XMC1201-Q040F0128 AA
designator U?
32 MHz XMC1200 MCU with 128 KByte Program Memory, 16 KByte SRAM, 3.3 V, 5 V, -40 to 85 degC, PG-VQFN-40, Reel, Green; Manufacturer: Infineon; PartNumber: XMC1201-Q040F0128 AA; A / D input lines (incl. FADC): 12; Digital I/O Lines: 34; E2PROM Emulation (Data-Flash): TRUE; Instruction set architecture: ARM(R) Cortex(TM)-M0 (32-bit); Instruction width [bits]: 32/16; Max Clock Frequency: 32 MHz; Power Modes: clock gating possible; Serial I/O Interfaces: 2; Type of Memory: Flash; Type of Serial I/O Interfaces: UART, SPI, I2C, I2S; DatasheetVersion: Rev. 1.4; PackageVersion: Rev. 01; PackageReference: PG-VQFN-40-13; PackageDescription: 40-Pin Plastic (Green) Very Thin Profile Quad Flat Non Leaded Package, 5 x 5 mm Body, 0.4 mm Pitch; Green: TRUE; Group: XMC1200; Halogen-free: TRUE; I/O Operation Voltages: 3.3 V, 5 V; On-chip clock generation: TRUE; On-chip Voltage Regulator: TRUE; Oscillator Watchdog: TRUE; Packing: Reel; Program Memory: 128 KByte; Real Time Clock (RTC): TRUE; SRAM (incl. Cache): 16 KByte; Watchdog Timer: TRUE; Mounting Technology: Surface Mount; ComponentLink1Description: Manufacturer URL; ComponentLink1URL: http://www.infineon.com/; ComponentLink2Description: Datasheet; ComponentLink2URL: http://www.infineon.com/dgdl/xmc1200_ds_v1.4_2014_05.pdf?folderId=db3a30433580b3710135a47f3eb76c98&fileId=db3a30433d1d0bbe013d256d7e460cbf&ack=t; ComponentLink3Description: Package Specification; ComponentLink3URL: http://www.infineon.com/cms/packages/SMD_-_Surface_Mounted_Devices/P-PG-VQFN/P-PG-VQFN-040-13.html?__locale=en
footprint INF-PG-VQFN-40-13_V (QFN, 40-Leads, Body 5x5mm, Pitch 0.4mm, Thermal Pad 3.6x3.6mm)
pins: 1 P2.0 (io), 2 P2.1 (io), 3 P2.2 (in), 4 P2.3 (in), 5 P2.4 (in), 6 P2.5 (in), 7 P2.6 (in), 8 P2.7 (in), 9 P2.8 (in), 10 P2.9 (in), 11 P2.10 (io), 12 P2.11 (io), 13 VSS (power) "Supply GND, ADC reference GND", 14 VDD (power) "Supply VDD, ADC reference voltage/ORC reference voltage. VDD has to be supplied with the same voltage as VDDP", 15 VDDP (power) "I/O port supply", 16 P1.6 (io), 17 P1.5 (io), 18 P1.4 (io), 19 P1.3 (io), 20 P1.2 (io), 21 P1.1 (io), 22 P1.0 (io), 23 P0.0 (io), 24 P0.1 (io), 25 P0.2 (io), 26 P0.3 (io), 27 P0.4 (io), 28 P0.5 (io), 29 P0.6 (io), 30 P0.7 (io), 31 VSSP (power) "I/O port ground", 32 VDDP (power) "I/O port supply", 33 P0.8 (io), 34 P0.9 (io), 35 P0.10 (io), 36 P0.11 (io), 37 P0.12 (io), 38 P0.13 (io), 39 P0.14 (io), 40 P0.15 (io), 41 EP (power) "Exposed Die Pad The exposed die pad is connected internally to VSSP.For proper operation, it is mandatory to connect the exposed pad to the board ground For thermal aspects, please refer to the Package and Reliability chapter."

## XMC1201-Q040F0200 AA
designator U?
32 MHz XMC1200 MCU with 200 KByte Program Memory, 16 KByte SRAM, 3.3 V, 5 V, -40 to 85 degC, PG-VQFN-40, Reel, Green; Manufacturer: Infineon; PartNumber: XMC1201-Q040F0200 AA; A / D input lines (incl. FADC): 12; Digital I/O Lines: 34; E2PROM Emulation (Data-Flash): TRUE; Instruction set architecture: ARM(R) Cortex(TM)-M0 (32-bit); Instruction width [bits]: 32/16; Max Clock Frequency: 32 MHz; Power Modes: clock gating possible; Serial I/O Interfaces: 2; Type of Memory: Flash; Type of Serial I/O Interfaces: UART, SPI, I2C, I2S; DatasheetVersion: Rev. 1.4; PackageVersion: Rev. 01; PackageReference: PG-VQFN-40-13; PackageDescription: 40-Pin Plastic (Green) Very Thin Profile Quad Flat Non Leaded Package, 5 x 5 mm Body, 0.4 mm Pitch; Green: TRUE; Group: XMC1200; Halogen-free: TRUE; I/O Operation Voltages: 3.3 V, 5 V; On-chip clock generation: TRUE; On-chip Voltage Regulator: TRUE; Oscillator Watchdog: TRUE; Packing: Reel; Program Memory: 200 KByte; Real Time Clock (RTC): TRUE; SRAM (incl. Cache): 16 KByte; Watchdog Timer: TRUE; Mounting Technology: Surface Mount; ComponentLink1Description: Manufacturer URL; ComponentLink1URL: http://www.infineon.com/; ComponentLink2Description: Datasheet; ComponentLink2URL: http://www.infineon.com/dgdl/xmc1200_ds_v1.4_2014_05.pdf?folderId=db3a30433580b3710135a47f3eb76c98&fileId=db3a30433d1d0bbe013d256d7e460cbf&ack=t; ComponentLink3Description: Package Specification; ComponentLink3URL: http://www.infineon.com/cms/packages/SMD_-_Surface_Mounted_Devices/P-PG-VQFN/P-PG-VQFN-040-13.html?__locale=en
footprint INF-PG-VQFN-40-13_V (QFN, 40-Leads, Body 5x5mm, Pitch 0.4mm, Thermal Pad 3.6x3.6mm)
pins: 1 P2.0 (io), 2 P2.1 (io), 3 P2.2 (in), 4 P2.3 (in), 5 P2.4 (in), 6 P2.5 (in), 7 P2.6 (in), 8 P2.7 (in), 9 P2.8 (in), 10 P2.9 (in), 11 P2.10 (io), 12 P2.11 (io), 13 VSS (power) "Supply GND, ADC reference GND", 14 VDD (power) "Supply VDD, ADC reference voltage/ORC reference voltage. VDD has to be supplied with the same voltage as VDDP", 15 VDDP (power) "I/O port supply", 16 P1.6 (io), 17 P1.5 (io), 18 P1.4 (io), 19 P1.3 (io), 20 P1.2 (io), 21 P1.1 (io), 22 P1.0 (io), 23 P0.0 (io), 24 P0.1 (io), 25 P0.2 (io), 26 P0.3 (io), 27 P0.4 (io), 28 P0.5 (io), 29 P0.6 (io), 30 P0.7 (io), 31 VSSP (power) "I/O port ground", 32 VDDP (power) "I/O port supply", 33 P0.8 (io), 34 P0.9 (io), 35 P0.10 (io), 36 P0.11 (io), 37 P0.12 (io), 38 P0.13 (io), 39 P0.14 (io), 40 P0.15 (io), 41 EP (power) "Exposed Die Pad The exposed die pad is connected internally to VSSP.For proper operation, it is mandatory to connect the exposed pad to the board ground For thermal aspects, please refer to the Package and Reliability chapter."